# Altium schematic symbol library Schlib1.SchLib: 2 symbols
Pins are listed as number, name and electrical type; pins without a type are passive.

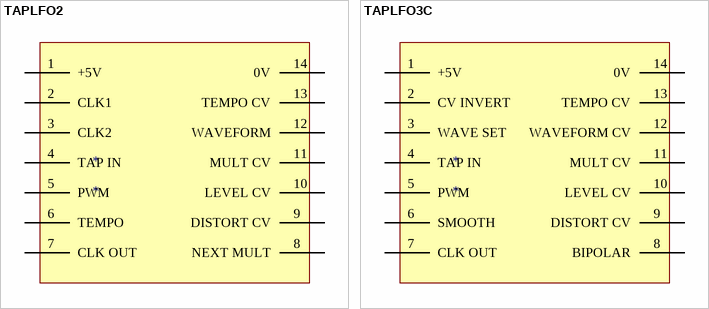
[diagram p0: symbols TAPLFO2 to TAPLFO3C]

## TAPLFO2
designator *
pins: 1 +5V, 2 CLK1, 3 CLK2, 4 TAP IN, 5 PWM, 6 TEMPO, 7 CLK OUT, 8 NEXT MULT, 9 DISTORT CV, 10 LEVEL CV, 11 MULT CV, 12 WAVEFORM, 13 TEMPO CV, 14 0V

## TAPLFO3C
designator *
pins: 1 +5V, 2 CV INVERT, 3 WAVE SET, 4 TAP IN, 5 PWM, 6 SMOOTH, 7 CLK OUT, 8 BIPOLAR, 9 DISTORT CV, 10 LEVEL CV, 11 MULT CV, 12 WAVEFORM CV, 13 TEMPO CV, 14 0V